# Altium footprint library Transistor-Fotprint.PcbLib: 27 footprints (part 1 of 2)
Each footprint in its own frame and in the unit in brackets; x right, y up, seen from the top. Pads: shape width x height; smd on the part's side, far side on the other; paste and mask are expansions set on the pad; w line width, h text height; cw(c..) or ccw(c..) is an arc to the next point about the centre after c.
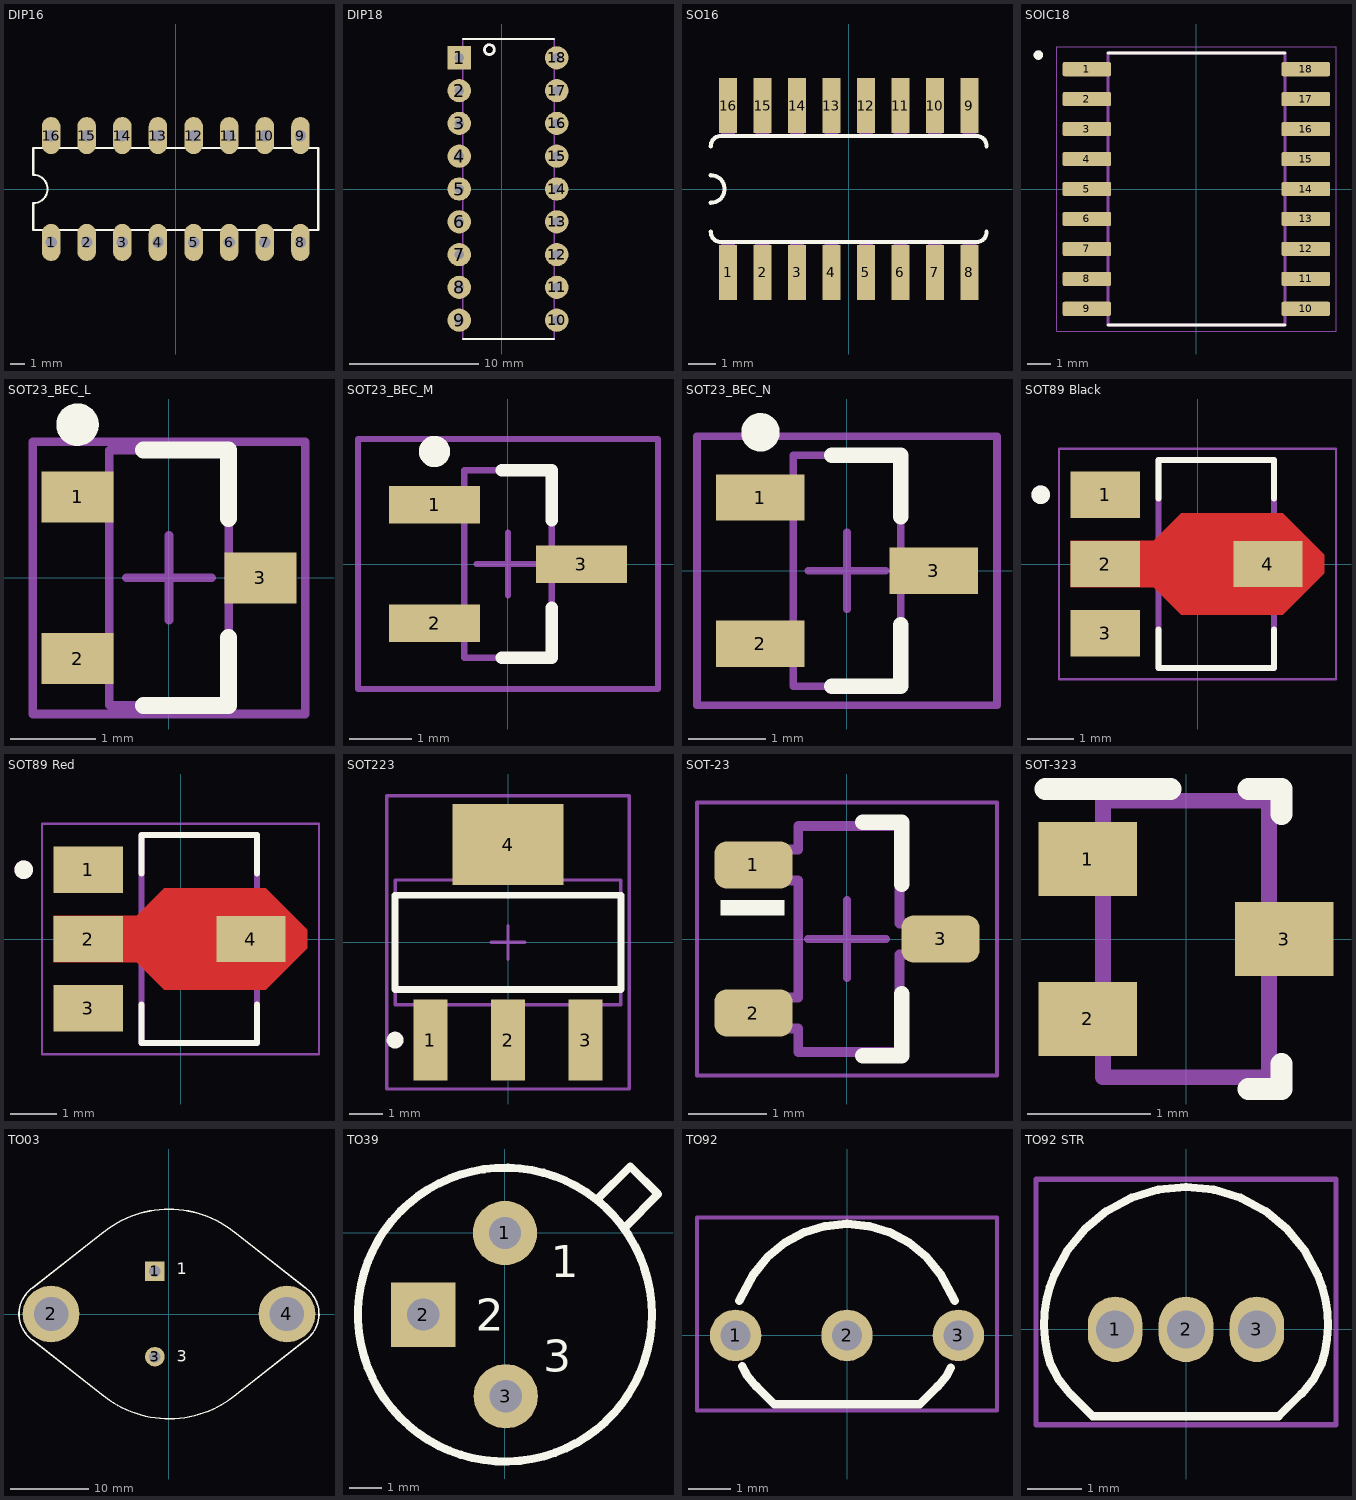
[diagram p0: the footprints below, top view; thin cyan lines are the x and y axes]

## DIP16 [mil]
pads (16):
  oval 52x104 hole 32: 1(-350,-150) 2(-250,-150) 3(-150,-150) 4(-50,-150) 5(50,-150) 6(150,-150) 7(250,-150) 8(350,-150) 9(350,150) 10(250,150) 11(150,150) 12(50,150) 13(-50,150) 14(-150,150) 15(-250,150) 16(-350,150)
Top Overlay:
  lines w6: -400,-115 -400,-40 ccw(c-400,0) -400,40 -400,115 400,115 400,-115 -400,-115
3D body "CircuitWorks-DIP16.step": height 165, standoff -101, extent -425,-155 425,155

## DIP18 [mm]
pads (18):
  rect 1.8x1.8 hole 0.72: 1(-3.302,10.16)
  round 1.8 hole 0.72: 2(-3.302,7.62) 3(-3.302,5.08) 4(-3.302,2.54) 5(-3.302,0) 6(-3.302,-2.54) 7(-3.302,-5.08) 8(-3.302,-7.62) 9(-3.302,-10.16) 10(4.25,-10.16) 11(4.25,-7.62) 12(4.25,-5.08) 13(4.25,-2.54) 14(4.25,0) 15(4.25,2.54) 16(4.25,5.08) 17(4.25,7.62) 18(4.25,10.16)
Top Overlay:
  circle w0.2: c-0.967,10.795 r0.381
  lines w0.127: -3.042,-11.62 4.058,-11.62 ; -3.042,11.62 4.058,11.62
Mechanical 13:
  circle w0.2: c-0.967,10.795 r0.381
  lines w0.127: -3.042,-11.62 -3.042,11.62 4.058,11.62 4.058,-11.62 -3.042,-11.62
3D body "User Library-DIP-18P-M02.step": height 5.25, standoff -2.75, extent -3.427,-11 4.443,11

## SO16 [mil]
pads (16):
  rect 26x80 smd: 1(-175,-121) 2(-125,-121) 3(-75,-121) 4(-25,-121) 5(25,-121) 6(75,-121) 7(125,-121) 8(175,-121) 9(175,121) 10(125,121) 11(75,121) 12(25,121) 13(-25,121) 14(-75,121) 15(-125,121) 16(-175,121)
Top Overlay:
  lines w6: -200,-62 ccw(c-185,-62) -185,-77 185,-77 ccw(c185,-62) 200,-62 ; -200,-20 ccw(c-200,0) -200,20 ; -200,62 cw(c-185,62) -185,77 185,77 cw(c185,62) 200,62
Mechanical 13:
  region: 185,77.05 165.11,77.05 165.11,122 185,122
  region: 135,77.04 115.06,77.04 115.06,122 135,122
  region: 85,77.12 65.1,77.12 65.1,122 85,122
  region: 35,77.05 15.01,77.05 15.01,122 35,122
  region: 185,-122.11 165.16,-122.11 165.16,-77 185,-77
  region: 135,-122.01 115.01,-122.01 115.01,-77 135,-77
  region: 85,-122.18 65.1,-122.18 65.1,-77 85,-77
  region: 35,-122.13 15.02,-122.13 15.02,-77 35,-77
  region: -165,77 -185.01,77 -185.01,122 -165,122
  region: -115,77.06 -135.1,77.06 -135.1,122 -115,122
  region: -65,77.02 -85.03,77.02 -85.03,122 -65,122
  region: -15,-122.12 -35.03,-122.12 -35.03,-77 -15,-77
  region: -65,-121.13 -85.09,-121.13 -85.09,-76 -65,-76
  region: -115,-122.17 -135.19,-122.17 -135.19,-77 -115,-77
  region: -165,-122.06 -185.09,-122.06 -185.09,-77 -165,-77
  region: -15,77.15 -35.07,77.15 -35.07,122 -15,122
3D body "CircuitWorks-SO-16.step": height 57, standoff 0, extent -196.5,-120 196.5,112.49

## SOIC18 [mm]
pads (18):
  rrect25% 2.06x0.6 smd: 1(-4.64,5.08) 2(-4.64,3.81) 3(-4.64,2.54) 4(-4.64,1.27) 5(-4.64,0) 6(-4.64,-1.27) 7(-4.64,-2.54) 8(-4.64,-3.81) 9(-4.64,-5.08) 10(4.64,-5.08) 11(4.64,-3.81) 12(4.64,-2.54) 13(4.64,-1.27) 14(4.64,0) 15(4.64,1.27) 16(4.64,2.54) 17(4.64,3.81) 18(4.64,5.08)
Top Overlay:
  circle w0.2: c-6.7,5.68 r0.1
  lines w0.127: -3.75,-5.775 3.75,-5.775 ; -3.75,5.775 3.75,5.775
Mechanical 13:
  circle w0.2: c-6.7,5.68 r0.1
  lines w0.127: -3.75,-5.775 3.75,-5.775 3.75,5.775 -3.75,5.775 -3.75,-5.775
Mechanical 15:
  lines w0.05: -5.92,-6.025 5.92,-6.025 5.92,6.025 -5.92,6.025 -5.92,-6.025
3D body "User Library-SOIC-18-300.STEP": height 2.57, standoff -0.03, extent -5.334,-5.908 5.266,5.842

## SOT23_BEC_L [mm] "SOT23, 3-Leads, Body 2.9x1.3mm, Pitch 0.95mm, Lead Span 2.4mm, IPC High Density"
height 1.14
pads (3):
  rect 0.85x0.6 smd: 1(-1.075,0.95) 2(-1.075,-0.95) 3(1.075,0)
Top Overlay:
  circle w0.25: c-1.075,1.8 r0.125
  lines w0.2: -0.3,-1.5 0.7,-1.5 0.7,-0.7 ; -0.3,1.5 0.7,1.5 0.7,0.7
Mechanical 13:
  lines w0.1: -0.7,-1.5 0.7,-1.5 0.7,1.5 -0.7,1.5 -0.7,-1.5
Mechanical 15:
  lines w0.1: -0.5,0 0.5,0 ; 0,-0.5 0,0.5 ; -1.6,-1.6 1.6,-1.6 1.6,1.6 -1.6,1.6 -1.6,-1.6
3D body "User Library-N-MOS_BSS123_SOT23.STEP": height 1, standoff 0, extent -1.225,-1.45 1.075,1.45

## SOT23_BEC_M [mm] "SOT23, 3-Leads, Body 2.9x1.3mm, Pitch 0.95mm, Lead Span 2.4mm, IPC Low Density"
height 1.14
pads (3):
  rect 1.45x0.6 smd: 1(-1.175,0.95) 2(-1.175,-0.95) 3(1.175,0)
Top Overlay:
  circle w0.25: c-1.175,1.8 r0.125
  lines w0.2: -0.1,-1.5 0.7,-1.5 0.7,-0.7 ; -0.1,1.5 0.7,1.5 0.7,0.7
Mechanical 13:
  lines w0.1: -0.7,-1.5 -0.7,1.5 0.7,1.5 0.7,-1.5 -0.7,-1.5
Mechanical 15:
  lines w0.1: -0.5,0 0.5,0 ; 0,-0.5 0,0.5 ; -2.4,-2 -2.4,2 2.4,2 2.4,-2 -2.4,-2
3D body "User Library-N-MOS_BSS123_SOT23.STEP": height 1, standoff 0, extent -1.225,-1.45 1.075,1.45

## SOT23_BEC_N [mm] "SOT23, 3-Leads, Body 2.9x1.3mm, Pitch 0.95mm, Lead Span 2.4mm, IPC Medium Density"
height 1.14
pads (3):
  rect 1.15x0.6 smd: 1(-1.125,0.95) 2(-1.125,-0.95) 3(1.125,0)
Top Overlay:
  circle w0.25: c-1.125,1.8 r0.125
  lines w0.2: -0.2,-1.5 0.7,-1.5 0.7,-0.7 ; -0.2,1.5 0.7,1.5 0.7,0.7
Mechanical 13:
  lines w0.1: -0.7,-1.5 0.7,-1.5 0.7,1.5 -0.7,1.5 -0.7,-1.5
Mechanical 15:
  lines w0.1: -0.5,0 0.5,0 ; 0,-0.5 0,0.5 ; -1.95,-1.75 1.95,-1.75 1.95,1.75 -1.95,1.75 -1.95,-1.75
3D body "User Library-N-MOS_BSS123_SOT23.STEP": height 1, standoff 0, extent -1.225,-1.45 1.075,1.45

## SOT89 Black [mm]
pads (4):
  rect 1.5x1 smd mask+0: 1(-2,1.5) 3(-2,-1.5)
  rect 1.5x1 smd paste-2 mask+0: 2(-2,0) 4(1.524,0)
Top Layer:
  region: 2.75,0.2 2.75,-0.2 1.85,-1.1 -0.35,-1.1 -0.95,-0.5 -2.75,-0.5 -2.75,0.5 -0.95,0.5 -0.35,1.1 1.85,1.1
Top Overlay:
  circle w0.2: c-3.4,1.5 r0.1
  lines w0.127: -0.845,-1.42 -0.845,-2.25 1.655,-2.25 1.655,-1.42 ; -0.845,1.42 -0.845,2.25 1.655,2.25 1.655,1.42
Top Solder:
  region: -1.18,0.93 -2.82,0.93 -2.82,2.07 -1.18,2.07
  region: -1.18,-2.07 -2.82,-2.07 -2.82,-0.93 -1.18,-0.93
  region: 2.82,0.235 2.82,-0.235 1.885,-1.17 -0.385,-1.17 -0.985,-0.57 -2.82,-0.57 -2.82,0.57 -0.985,0.57 -0.385,1.17 1.885,1.17
Mechanical 13:
  circle w0.2: c-3.4,1.5 r0.1
  lines w0.127: -0.845,-2.25 -0.845,2.25 1.655,2.25 1.655,-2.25 -0.845,-2.25
Mechanical 15:
  lines w0.05: -3,-2.5 -3,2.5 3,2.5 3,-2.5 -3,-2.5
3D body "CircuitWorks-SOT-89.step": height 1.5, standoff 0, extent -2,-2.159 2,2.341

## SOT89 Red [mm]
pads (4):
  rect 1.5x1 smd mask+0: 1(-2,1.5) 3(-2,-1.5)
  rect 1.5x1 smd paste-2 mask+0: 2(-2,0) 4(1.524,0)
Top Layer:
  region: 2.75,0.2 2.75,-0.2 1.85,-1.1 -0.35,-1.1 -0.95,-0.5 -2.75,-0.5 -2.75,0.5 -0.95,0.5 -0.35,1.1 1.85,1.1
Top Overlay:
  circle w0.2: c-3.4,1.5 r0.1
  lines w0.127: -0.845,-1.42 -0.845,-2.25 1.655,-2.25 1.655,-1.42 ; -0.845,1.42 -0.845,2.25 1.655,2.25 1.655,1.42
Top Solder:
  region: -1.18,0.93 -2.82,0.93 -2.82,2.07 -1.18,2.07
  region: -1.18,-2.07 -2.82,-2.07 -2.82,-0.93 -1.18,-0.93
  region: 2.82,0.235 2.82,-0.235 1.885,-1.17 -0.385,-1.17 -0.985,-0.57 -2.82,-0.57 -2.82,0.57 -0.985,0.57 -0.385,1.17 1.885,1.17
Mechanical 13:
  circle w0.2: c-3.4,1.5 r0.1
  lines w0.127: -0.845,-2.25 -0.845,2.25 1.655,2.25 1.655,-2.25 -0.845,-2.25
Mechanical 15:
  lines w0.05: -3,-2.5 -3,2.5 3,2.5 3,-2.5 -3,-2.5
3D body "CircuitWorks-SOT89.step": height 1.58, standoff 0.08, extent -2,-2.286 2,2.214

## SOT223 [mm]
pads (4):
  rect 1x2.4 smd: 1(-2.3,-2.9) 2(0,-2.9) 3(2.3,-2.9)
  rect 3.3x2.4 smd: 4(0,2.9)
Top Overlay:
  circle w0.25: c-3.35,-2.9 r0.125
  lines w0.2: -3.35,-1.4 3.35,-1.4 3.35,1.4 -3.35,1.4 -3.35,-1.4
Mechanical 13:
  lines w0.1: -3.35,-1.85 3.35,-1.85 3.35,1.85 -3.35,1.85 -3.35,-1.85
Mechanical 15:
  lines w0.1: -0.5,0 0.5,0 ; 0,-0.5 0,0.5 ; -3.6,-4.35 3.6,-4.35 3.6,4.35 -3.6,4.35 -3.6,-4.35
3D body "CircuitWorks-SOT-223.SLDPRT": height 1.66, standoff -0.02, extent -3.25,-3.48 3.25,3.48

## SOT-23 [mm] "SOT23, 3-Leads, Body 2.9x1.3mm, Pitch 0.95mm, Lead Span 2.5mm, IPC Medium Density"
height 1.1
pads (3):
  rrect50% 1x0.6 smd: 1(-1.2,0.95) 2(-1.2,-0.95) 3(1.2,0)
Top Overlay:
  rectangle: -1.625,0.301 -0.8,0.501
  lines w0.2: 0.2,-1.5 0.7,-1.5 0.7,-0.7 ; 0.2,1.5 0.7,1.5 0.7,0.7
Mechanical 5:
  lines w0.127: -1.16,-1.15 -1.16,-0.75 -0.625,-0.75 -0.625,0.75 -1.16,0.75 -1.16,1.15 -0.625,1.15 -0.625,1.45 0.675,1.45 0.675,0.2 1.21,0.2 1.21,-0.2 0.675,-0.2 0.675,-1.45 -0.625,-1.45 -0.625,-1.15 -1.16,-1.15
Mechanical 15:
  lines w0.05: -1.925,-1.75 1.925,-1.75 1.925,1.75 -1.925,1.75 -1.925,-1.75
  lines w0.1: -0.5,0 0.5,0 ; 0,-0.5 0,0.5
3D body "SW3dPS-sot-3p290x130ll237h100.STEP": height 1, standoff 0, extent -1.16,-1.45 1.21,1.45

## SOT-323 [mm]
height 1.1
pads (3):
  rect 0.8x0.6 smd: 1(-0.8,0.65) 2(-0.8,-0.65) 3(0.8,0)
Top Overlay:
  lines w0.178: -1.143,1.219 -0.127,1.219 ; 0.508,-1.219 0.775,-1.219 0.775,-1.016 ; 0.508,1.219 0.775,1.219 0.775,1.016
Mechanical 5:
  lines w0.127: -1.125,-0.8 -0.975,-0.8 -0.935,-0.8 -0.884,-0.8 -0.725,-0.8 -0.675,-0.8 -0.675,-0.5 -0.725,-0.5 -0.884,-0.5 -0.935,-0.5 -0.975,-0.5 -1.125,-0.5 -1.125,-0.8 ; -1.125,0.5 -0.975,0.5 -0.935,0.5 -0.884,0.5 -0.725,0.5 -0.675,0.5 -0.675,0.8 -0.725,0.8 -0.884,0.8 -0.935,0.8 -0.975,0.8 -1.125,0.8 -1.125,0.5 ; -0.675,-1.125 0.675,-1.125 0.675,1.125 -0.675,1.125 -0.675,-1.125 ; 0.675,-0.15 0.675,0.15 0.725,0.15 0.884,0.15 0.935,0.15 0.975,0.15 1.125,0.15 1.125,-0.15 0.975,-0.15 0.935,-0.15 0.884,-0.15 0.725,-0.15 0.675,-0.15
3D body "SC-70.stp": height 1.13, standoff 0.02, extent -1.125,-1.125 1.125,1.125

## TO03 [mm]
pads (4):
  rect 2.5x2.5 hole 1.5: 1(-1.815,5.46)
  round 7.25 hole 4.4: 2(-15.075,0) 4(15.075,0)
  round 2.5 hole 1.5: 3(-1.815,-5.46)
Top Overlay:
  lines w0.2: -17.427,-3.359 -8.299,-10.521 ; -17.427,-3.358 cw(c-15.075,0) -17.427,3.359 -8.299,10.521 ; -8.613,-10.265 ccw(c0,0) 8.298,-10.521 17.427,-3.359 ; -8.613,10.265 cw(c0,0) 8.613,10.265 ; 8.299,10.521 17.427,3.359 ; 17.308,3.439 cw(c15.075,0) 17.427,-3.358
  text "3" at 1.016,-6.096 h1.5
  text "1" at 1.016,5.08 h1.5
3D body "TO-03.STEP": height 9.15, standoff -2.75, extent -19.65,-13 19.65,13

## TO39 [mm] "NPN Transistor"
pads (3):
  round 2 hole 1: 1(0,0) 3(0.025,-5.08)
  rect 2x2 hole 1: 2(-2.54,-2.54)
Top Overlay:
  circle w0.254: c0,-2.54 r4.572
  lines w0.254: 2.883,1.054 3.899,2.07 4.763,1.206 3.746,0.191
  text "1" at 1.422,-1.372 h1
  text "2" at -0.914,-3.048 h1
  text "3" at 1.194,-4.318 h1
3D body "User Library-TO-39_TO-205AD.step": height 6.98, standoff -11.44, extent -4.7,-7.24 4.7,2.157

## TO92 [mm]
height 8
pads (3):
  round 1.2 hole 0.7: 1(-2.6,0) 2(0,0) 3(2.6,0)
Top Overlay:
  lines w0.2: -2.512,0.806 -2.173,1.441 -1.848,1.837 -1.452,2.162 -1,2.403 -0.51,2.552 0,2.602 0.51,2.552 1,2.403 1.452,2.162 1.848,1.837 2.173,1.441 2.512,0.806 ; -2.443,-0.723 -2.326,-0.941 -2.118,-1.195 -2.112,-1.189 -1.7,-1.601 1.7,-1.601 2.112,-1.189 2.118,-1.195 2.326,-0.941 2.424,-0.759
Mechanical 15:
  lines w0.1: -3.5,-1.75 3.5,-1.75 3.5,2.75 -3.5,2.75 -3.5,-1.75
3D body "User Library-TO-92_Bent.STEP": height 10, standoff -3, extent -2.79,-1.59 2.79,2.613

## TO92 STR [mm]
height 7
pads (3):
  oval 1x1.2 hole 0.7 mask+0.06: 1(-1.3,0) 2(0,0) 3(1.3,0)
Top Overlay:
  lines w0.15: -2.481,-0.642 cw(c-0.325,0.092) -2.414,0.999 -2.173,1.45 -1.848,1.846 -1.452,2.171 -1,2.413 -0.51,2.562 0,2.612 0.51,2.562 1,2.413 1.452,2.171 1.848,1.846 2.173,1.45 2.414,0.999 cw(c0.325,0.092) 2.481,-0.642 2.326,-0.931 2.118,-1.185 2.112,-1.18 1.7,-1.592 -1.712,-1.592 -2.118,-1.185 -2.326,-0.931 -2.481,-0.642
Mechanical 15:
  lines w0.1: -2.75,-1.75 -2.75,2.75 2.75,2.75 2.75,-1.75 -2.75,-1.75
3D body "User Library-TO-92_Str.STEP": height 10, standoff -3, extent -2.613,-1.59 2.613,2.613